# EAGLE library part 418117170912 (library EAGLE-TACT_SWITCHES-rev16e)
2.54 mm compact THT with flat actuator WS-DITV, 12 Pole <http://katalog.we-online.de/media/images/v2/Family_WS-DITV_4181171709xx.jpg> Details see: http://katalog.we-online.de/en/em/DITV_2_54_COMPACT_THT_WITH_FLAT_ACTUATOR 2015 (C) Wurth Elektroni
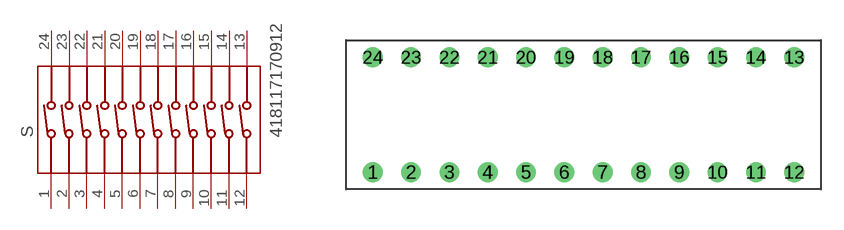
[diagram p49: symbol with the pads of 418117170912; footprint 418117170912]

Designator prefix S

## 418117170912  [418117170912]
1  1  pas
2  2  pas
3  3  pas
4  4  pas
5  5  pas
6  6  pas
7  7  pas
8  8  pas
9  9  hiz
10  10  pas
11  11  pas
12  12  pas
13  A12  pas
14  A11  pas
15  A10  pas
16  A9  pas
17  A8  pas
18  A7  pas
19  A6  pas
20  A5  pas
21  A4  pas
22  A3  pas
23  A2  pas
24  A1  pas

## Footprint 418117170912 (pad centres in mm)
WS-BS 2.54 mm compact THT Dip Switch with flat actuator, 12 Pole
drill 0.8: 1 -13.97,-3.81; 2 -11.43,-3.81; 3 -8.89,-3.81; 4 -6.35,-3.81; 5 -3.81,-3.81; 6 -1.27,-3.81; 7 1.27,-3.81; 8 3.81,-3.81; 9 6.35,-3.81; 10 8.89,-3.81; 11 11.43,-3.81; 12 13.97,-3.81; 13 13.97,3.81; 14 11.43,3.81; 15 8.89,3.81; 16 6.35,3.81; 17 3.81,3.81; 18 1.27,3.81; 19 -1.27,3.81; 20 -3.81,3.81; 21 -6.35,3.81; 22 -8.89,3.81; 23 -11.43,3.81; 24 -13.97,3.81